# EAGLE library part STM8L101FXU6 (library IC_MCU)
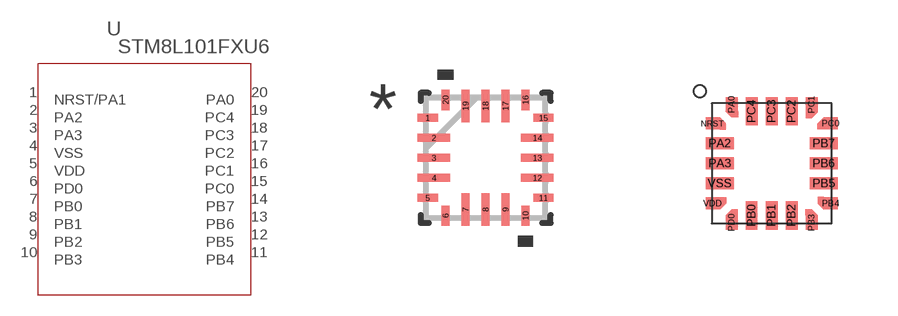
[diagram p0: symbol with the pads of UFQFPN20_3X3X0P6-L; footprints UFQFPN20_3X3X0P6-L, UFQFN20_3X3X0P6]

Designator prefix -

## STM8L101FXU6  [UFQFPN20_3X3X0P6-L]
1  NRST/PA1  pas
2  PA2  pas
3  PA3  pas
4  VSS  pas
5  VDD  pas
6  PD0  pas
7  PB0  pas
8  PB1  pas
9  PB2  pas
10  PB3  pas
11  PB4  pas
12  PB5  pas
13  PB6  pas
14  PB7  pas
15  PC0  pas
16  PC1  pas
17  PC2  pas
18  PC3  pas
19  PC4  pas
20  PA0  pas

## STM8L101FXU6UFQFPN20_3X3X  [UFQFN20_3X3X0P6]
NRST  NRST/PA1  pas
PA0  PA0  pas
PA2  PA2  pas
PA3  PA3  pas
PB0  PB0  pas
PB1  PB1  pas
PB2  PB2  pas
PB3  PB3  pas
PB4  PB4  pas
PB5  PB5  pas
PB6  PB6  pas
PB7  PB7  pas
PC0  PC0  pas
PC1  PC1  pas
PC2  PC2  pas
PC3  PC3  pas
PC4  PC4  pas
PD0  PD0  pas
VDD  VDD  pas
VSS  VSS  pas

## Footprint UFQFPN20_3X3X0P6-L (pad centres in mm)
smd 0.508 x 0.203: 1 -1.448,1; 5 -1.448,-1; 11 1.448,-1; 15 1.448,1
smd 0.813 x 0.203: 2 -1.295,0.5; 3 -1.295,0; 4 -1.295,-0.5; 12 1.295,-0.5; 13 1.295,0; 14 1.295,0.5
smd 0.203 x 0.508: 6 -1,-1.448; 10 1,-1.448; 16 1,1.448; 20 -1,1.448
smd 0.203 x 0.813: 7 -0.5,-1.295; 8 0,-1.295; 9 0.5,-1.295; 17 0.5,1.295; 18 0,1.295; 19 -0.5,1.295

## Footprint UFQFN20_3X3X0P6 (pad centres in mm)
smd 0.35 x 0.3: NRST 0.175,2.651; PB4 3.126,0.65; PC0 3.126,2.651; VDD 0.175,0.65
smd 0.3 x 0.35: PA0 0.651,3.126; PB3 2.65,0.175; PC1 2.651,3.126; PD0 0.65,0.175
smd 0.7 x 0.3: PA2 0.35,2.151; PA3 0.35,1.651; PB5 2.951,1.151; PB6 2.951,1.651; PB7 2.951,2.151; VSS 0.35,1.151
smd 0.3 x 0.7: PB0 1.15,0.35; PB1 1.65,0.35; PB2 2.15,0.35; PC2 2.151,2.951; PC3 1.651,2.951; PC4 1.151,2.951